# Altium footprint library PCA9306_PcbLib.PcbLib: 3 footprints
Each footprint in its own frame and in the unit in brackets; x right, y up, seen from the top. Pads: shape width x height; smd on the part's side, far side on the other; paste and mask are expansions set on the pad; w line width, h text height; cw(c..) or ccw(c..) is an arc to the next point about the centre after c.
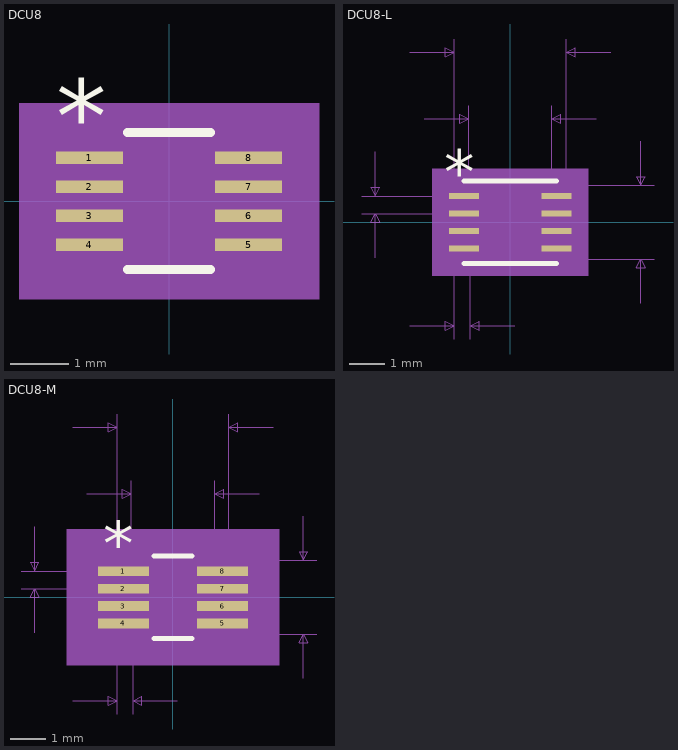
[diagram p0: the footprints below, top view; thin cyan lines are the x and y axes]

## DCU8 [mm]
pads (8):
  rect 1.157x0.214 smd paste+0 mask+0: 1(-1.372,0.75) 2(-1.372,0.25) 3(-1.372,-0.25) 4(-1.372,-0.75) 5(1.372,-0.75) 6(1.372,-0.25) 7(1.372,0.25) 8(1.372,0.75)
Top Overlay:
  lines w0.152: -0.718,-1.181 0.718,-1.181 ; -0.718,1.181 0.718,1.181
  text "*" at -1.943,0.837 h1.27
Mechanical 5:
  region: 2.585,-1.689 -2.585,-1.689 -2.585,1.689 2.585,1.689
Mechanical 13:
  lines w0: -0.305,1.054 ccw(c0,1.054) 0.305,1.054
  lines w0.025: -1.6,-0.877 -1.194,-0.877 -1.194,-0.623 -1.6,-0.623 -1.6,-0.877 ; -1.6,-0.377 -1.194,-0.377 -1.194,-0.123 -1.6,-0.123 -1.6,-0.377 ; -1.6,0.123 -1.194,0.123 -1.194,0.377 -1.6,0.377 -1.6,0.123 ; -1.6,0.623 -1.194,0.623 -1.194,0.877 -1.6,0.877 -1.6,0.623 ; -1.194,-1.054 -1.194,1.054 1.194,1.054 1.194,-1.054 -1.194,-1.054 ; 1.194,-0.877 1.6,-0.877 1.6,-0.623 1.194,-0.623 1.194,-0.877 ; 1.194,-0.377 1.6,-0.377 1.6,-0.123 1.194,-0.123 1.194,-0.377 ; 1.194,0.123 1.6,0.123 1.6,0.377 1.194,0.377 1.194,0.123 ; 1.194,0.623 1.6,0.623 1.6,0.877 1.194,0.877 1.194,0.623
  text "*" at -1.13,-0.292 h1.27
Mechanical 15:
  region: -1.448,-1.111 -2.204,-1.111 -2.204,1.111 -1.448,1.111 -1.448,1.308 1.448,1.308 1.448,1.111 2.204,1.111 2.204,-1.111 1.448,-1.111 1.448,-1.308 -1.448,-1.308
  lines w0.152: -2.204,-1.111 -1.448,-1.111 -1.448,-1.308 1.448,-1.308 1.448,-1.111 2.204,-1.111 2.204,1.111 1.448,1.111 1.448,1.308 -1.448,1.308 -1.448,1.111 -2.204,1.111 -2.204,-1.111
3D body: height 0.25, standoff 0, extent 0,0 0.254,0.254
3D body: height 0.25, standoff 0, extent 0,0 0,0
3D body: height 0.25, standoff 0, extent 0,0 0,0
3D body "DCU8.step": height 0.89, standoff 0, extent -1.6,-1.054 1.6,1.054

## DCU8-L [mm]
pads (8):
  rect 0.857x0.174 smd paste+0 mask+0: 1(-1.322,0.75) 2(-1.322,0.25) 3(-1.322,-0.25) 4(-1.322,-0.75) 5(1.322,-0.75) 6(1.322,-0.25) 7(1.322,0.25) 8(1.322,0.75)
Top Overlay:
  lines w0.152: -1.321,-1.181 1.321,-1.181 ; -1.321,1.181 1.321,1.181
  text "*" at -1.893,0.797 h1.27
Mechanical 5:
  region: 2.233,-1.537 -2.233,-1.537 -2.233,1.537 2.233,1.537
Mechanical 7:
  lines w0.025: -4.243,0.25 -1.322,0.25 ; -4.243,0.75 -1.322,0.75 ; -3.862,-1.02 -3.862,0.25 ; -3.862,2.02 -3.862,0.75 ; -2.87,-2.959 -1.6,-2.959 ; -2.87,4.864 -1.6,4.864 ; -2.464,2.959 -1.194,2.959 ; -1.6,-3.34 -1.6,0 -1.6,5.245 ; -1.194,0 -1.194,3.34 ; -1.143,-3.34 -1.143,0 ; 0,-1.054 4.115,-1.054 ; 0,1.054 4.115,1.054 ; 0.127,-2.959 -1.143,-2.959 ; 1.194,0 1.194,3.34 ; 1.6,0 1.6,5.245 ; 2.464,2.959 1.194,2.959 ; 2.87,4.864 1.6,4.864 ; 3.734,-2.324 3.734,-1.054 ; 3.734,2.324 3.734,1.054 ; -3.862,0.25 -3.735,-0.004 -3.989,-0.004 -3.862,0.25 ; -3.862,0.75 -3.735,1.004 -3.989,1.004 -3.862,0.75 ; -1.6,-2.959 -1.854,-3.086 -1.854,-2.832 -1.6,-2.959 ; -1.6,4.864 -1.854,4.737 -1.854,4.991 -1.6,4.864 ; -1.194,2.959 -1.448,2.832 -1.448,3.086 -1.194,2.959 ; -1.143,-2.959 -0.889,-3.086 -0.889,-2.832 -1.143,-2.959 ; 1.194,2.959 1.448,2.832 1.448,3.086 1.194,2.959 ; 1.6,4.864 1.854,4.737 1.854,4.991 1.6,4.864 ; 3.734,-1.054 3.861,-1.308 3.607,-1.308 3.734,-1.054 ; 3.734,1.054 3.861,1.308 3.607,1.308 3.734,1.054
  text "0.014in/0.356mm" at -3.753,-4.102 h0.64
  text "0.02in/0.5mm" at -8.18,0.182 h0.64
  text "0.083in/2.108mm" at 4.242,-0.318 h0.64
  text "0.126in/3.2mm" at -2.064,5.372 h0.64
  text "0.094in/2.388mm" at -2.381,3.467 h0.64
  text "Alt 2 Padstyle: b229_152h76" at -8.572,-13.754 h1.27
  text "Alt 1 Padstyle: b152_229h76" at -8.572,-12.23 h1.27
  text "Pin One Padstyle: r86_17" at -7.62,-7.658 h1.27
  text "Default Padstyle: r86_17" at -7.62,-6.134 h1.27
Mechanical 13:
  lines w0: -0.305,1.054 ccw(c0,1.054) 0.305,1.054
  lines w0.025: -1.6,-0.877 -1.194,-0.877 -1.194,-0.623 -1.6,-0.623 -1.6,-0.877 ; -1.6,-0.377 -1.194,-0.377 -1.194,-0.123 -1.6,-0.123 -1.6,-0.377 ; -1.6,0.123 -1.194,0.123 -1.194,0.377 -1.6,0.377 -1.6,0.123 ; -1.6,0.623 -1.194,0.623 -1.194,0.877 -1.6,0.877 -1.6,0.623 ; -1.194,-1.054 -1.194,1.054 1.194,1.054 1.194,-1.054 -1.194,-1.054 ; 1.194,-0.877 1.6,-0.877 1.6,-0.623 1.194,-0.623 1.194,-0.877 ; 1.194,-0.377 1.6,-0.377 1.6,-0.123 1.194,-0.123 1.194,-0.377 ; 1.194,0.123 1.6,0.123 1.6,0.377 1.194,0.377 1.194,0.123 ; 1.194,0.623 1.6,0.623 1.6,0.877 1.194,0.877 1.194,0.623
  text "*" at -1.13,-0.292 h1.27
Mechanical 15:
  region: -1.295,-0.939 -1.852,-0.939 -1.852,0.939 -1.295,0.939 -1.295,1.156 1.295,1.156 1.295,0.939 1.852,0.939 1.852,-0.939 1.295,-0.939 1.295,-1.156 -1.295,-1.156
  lines w0.152: -1.852,-0.939 -1.295,-0.939 -1.295,-1.156 1.295,-1.156 1.295,-0.939 1.852,-0.939 1.852,0.939 1.295,0.939 1.295,1.156 -1.295,1.156 -1.295,0.939 -1.852,0.939 -1.852,-0.939
3D body "DCU8-L.step": height 0.89, standoff 0, extent -1.524,-1.092 1.676,1.016
3D body: height 0.25, standoff 0, extent 0,0 0.254,0.254

## DCU8-M [mm]
pads (8):
  rect 1.457x0.274 smd paste+0 mask+0: 1(-1.422,0.75) 2(-1.422,0.25) 3(-1.422,-0.25) 4(-1.422,-0.75) 5(1.422,-0.75) 6(1.422,-0.25) 7(1.422,0.25) 8(1.422,0.75)
Top Overlay:
  lines w0.152: -0.537,-1.181 0.537,-1.181 ; -0.537,1.181 0.537,1.181
  text "*" at -1.993,0.897 h1.27
Mechanical 5:
  region: 3.039,-1.943 -3.039,-1.943 -3.039,1.943 3.039,1.943
Mechanical 7:
  lines w0.025: -4.343,0.25 -1.422,0.25 ; -4.343,0.75 -1.422,0.75 ; -3.962,-1.02 -3.962,0.25 ; -3.962,2.02 -3.962,0.75 ; -2.87,-2.959 -1.6,-2.959 ; -2.87,4.864 -1.6,4.864 ; -2.464,2.959 -1.194,2.959 ; -1.6,-3.34 -1.6,0 -1.6,5.245 ; -1.194,0 -1.194,3.34 ; -1.143,-3.34 -1.143,0 ; 0,-1.054 4.115,-1.054 ; 0,1.054 4.115,1.054 ; 0.127,-2.959 -1.143,-2.959 ; 1.194,0 1.194,3.34 ; 1.6,0 1.6,5.245 ; 2.464,2.959 1.194,2.959 ; 2.87,4.864 1.6,4.864 ; 3.734,-2.324 3.734,-1.054 ; 3.734,2.324 3.734,1.054 ; -3.962,0.25 -3.835,-0.004 -4.089,-0.004 -3.962,0.25 ; -3.962,0.75 -3.835,1.004 -4.089,1.004 -3.962,0.75 ; -1.6,-2.959 -1.854,-3.086 -1.854,-2.832 -1.6,-2.959 ; -1.6,4.864 -1.854,4.737 -1.854,4.991 -1.6,4.864 ; -1.194,2.959 -1.448,2.832 -1.448,3.086 -1.194,2.959 ; -1.143,-2.959 -0.889,-3.086 -0.889,-2.832 -1.143,-2.959 ; 1.194,2.959 1.448,2.832 1.448,3.086 1.194,2.959 ; 1.6,4.864 1.854,4.737 1.854,4.991 1.6,4.864 ; 3.734,-1.054 3.861,-1.308 3.607,-1.308 3.734,-1.054 ; 3.734,1.054 3.861,1.308 3.607,1.308 3.734,1.054
  text "0.014in/0.356mm" at -3.753,-4.102 h0.64
  text "0.02in/0.5mm" at -8.28,0.182 h0.64
  text "0.083in/2.108mm" at 4.242,-0.318 h0.64
  text "0.126in/3.2mm" at -2.064,5.372 h0.64
  text "0.094in/2.388mm" at -2.381,3.467 h0.64
  text "Alt 2 Padstyle: b229_152h76" at -8.572,-13.754 h1.27
  text "Alt 1 Padstyle: b152_229h76" at -8.572,-12.23 h1.27
  text "Pin One Padstyle: r146_27" at -7.938,-7.658 h1.27
  text "Default Padstyle: r146_27" at -7.938,-6.134 h1.27
Mechanical 13:
  lines w0: -0.305,1.054 ccw(c0,1.054) 0.305,1.054
  lines w0.025: -1.6,-0.877 -1.194,-0.877 -1.194,-0.623 -1.6,-0.623 -1.6,-0.877 ; -1.6,-0.377 -1.194,-0.377 -1.194,-0.123 -1.6,-0.123 -1.6,-0.377 ; -1.6,0.123 -1.194,0.123 -1.194,0.377 -1.6,0.377 -1.6,0.123 ; -1.6,0.623 -1.194,0.623 -1.194,0.877 -1.6,0.877 -1.6,0.623 ; -1.194,-1.054 -1.194,1.054 1.194,1.054 1.194,-1.054 -1.194,-1.054 ; 1.194,-0.877 1.6,-0.877 1.6,-0.623 1.194,-0.623 1.194,-0.877 ; 1.194,-0.377 1.6,-0.377 1.6,-0.123 1.194,-0.123 1.194,-0.377 ; 1.194,0.123 1.6,0.123 1.6,0.377 1.194,0.377 1.194,0.123 ; 1.194,0.623 1.6,0.623 1.6,0.877 1.194,0.877 1.194,0.623
  text "*" at -1.13,-0.292 h1.27
Mechanical 15:
  region: -1.702,-1.395 -2.658,-1.395 -2.658,1.395 -1.702,1.395 -1.702,1.562 1.702,1.562 1.702,1.395 2.658,1.395 2.658,-1.395 1.702,-1.395 1.702,-1.562 -1.702,-1.562
  lines w0.152: -2.658,-1.395 -1.702,-1.395 -1.702,-1.562 1.702,-1.562 1.702,-1.395 2.658,-1.395 2.658,1.395 1.702,1.395 1.702,1.562 -1.702,1.562 -1.702,1.395 -2.658,1.395 -2.658,-1.395
3D body "DCU8-M.step": height 0.89, standoff 0, extent -1.6,-1.054 1.6,1.054
3D body: height 0.89, standoff 0, extent 0,0 0,0
3D body: height 0.25, standoff 0, extent 0,0 0.254,0.254